# Altium integrated library Xilinx Spartan-6L.IntLib: 84 symbols (part 20 of 21)
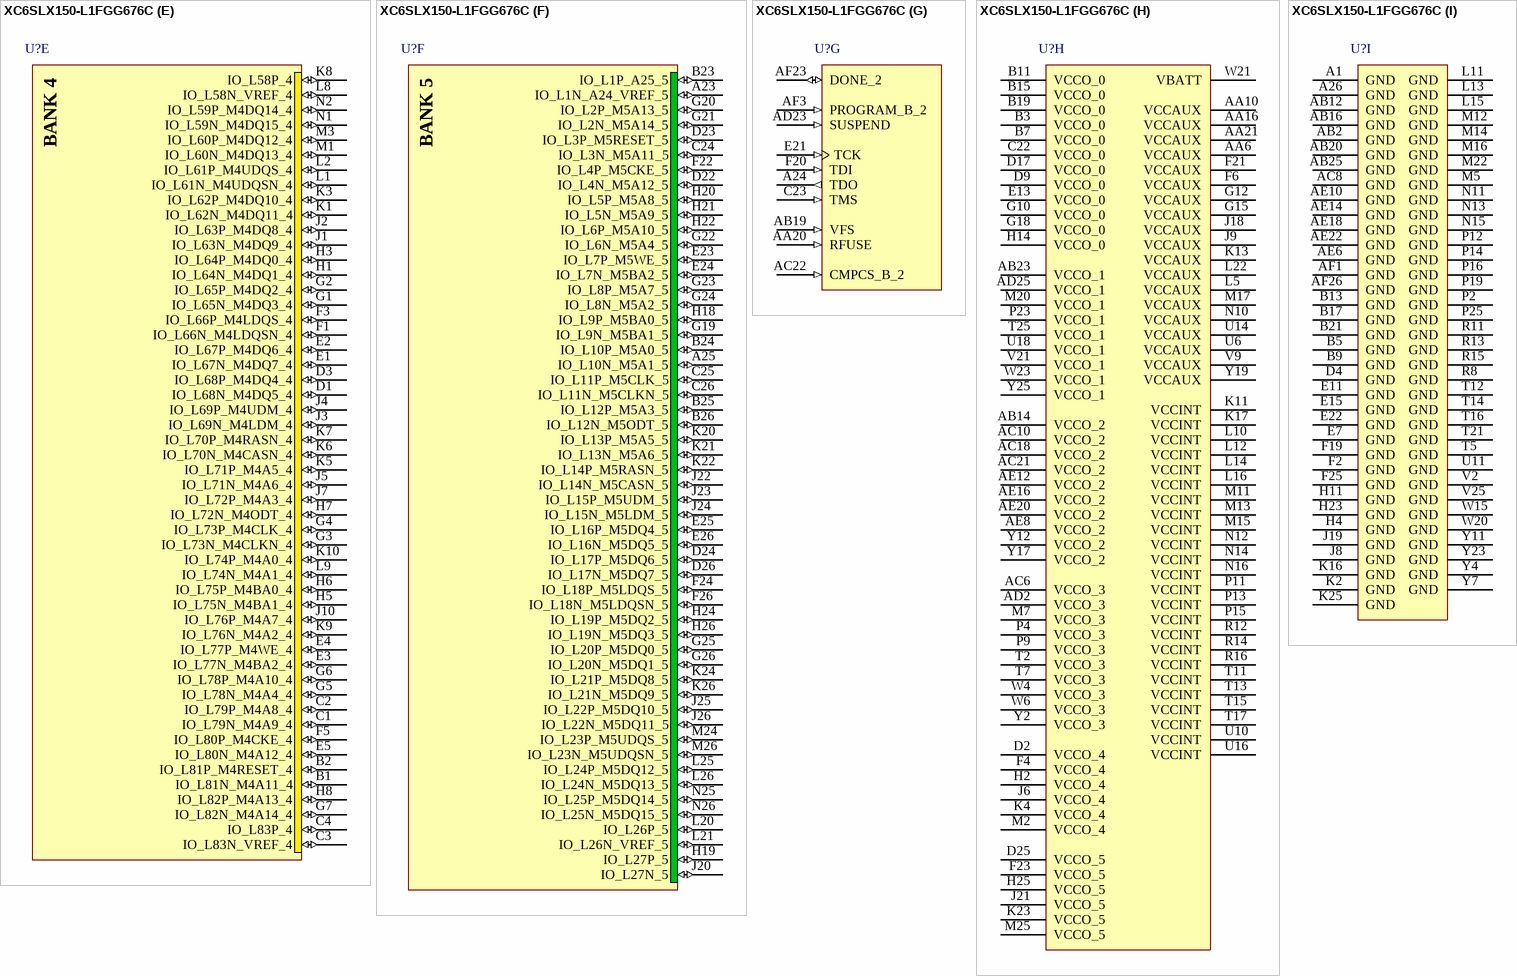
[diagram p129: symbol XC6SLX150-L1FGG676C]

## XC6SLX150-L1FGG676C
designator U?
Spartan-6 LX 1.0V FPGA, 498 User I/Os, 676-Ball Fine-Pitch BGA (1.0mm Pitch), Low Power Version, Commercial Grade, Pb-Free; Published: 17-Nov-2009; DatasheetVersion: ver1.6, Nov-2010; PackageVersion: ver1.2.1, Apr-2005; PackageReference: FGG676; Publisher: Altium Limited; PackageDescription: 676-Ball Fine Pitch Ball Grid Array (FGG676) - Pb-Free; Code_JEDEC: MS-034-AAL-1; Code_IPC: BGA100P26X26-676; ComponentLink1Description: Manufacturer Link; ComponentLink1URL: http://www.xilinx.com; ComponentLink2Description: Spartan-6 Datasheet; ComponentLink2URL: http://www.xilinx.com/support/documentation/data_sheets/ds160.pdf; ComponentLink3Description: Spartan-6 Documents; ComponentLink3URL: http://www.xilinx.com/support/documentation/spartan-6.htm; ComponentLink4Description: Xilinx.com Home; ComponentLink4URL: http://www.xilinx.com
footprint FGG676 (BGA, 676-Leads, Body 27x27mm, Pitch 1mm)
signal-integrity model XC6SLX150_FGG676 (Spartan-6)
part A pins: A2 IO_L1N_VREF_0 (io), A3 IO_L1P_HSWAPEN_0 (io), A4 IO_L2N_0 (io), A5 IO_L4N_0 (io), A6 IO_L6N_0 (io), A7 IO_L12N_0 (io), A8 IO_L16N_0 (io), A9 IO_L17N_0 (io), A10 IO_L22N_0 (io), A11 IO_L24N_0 (io), A12 IO_L26N_0 (io), A13 IO_L34N_GCLK18_0 (io), A14 IO_L35N_GCLK16_0 (io), A15 IO_L37N_GCLK12_0 (io), A16 IO_L38N_VREF_0 (io), A17 IO_L50N_0 (io), A18 IO_L62N_VREF_0 (io), A19 IO_L63N_SCP6_0 (io), A20 IO_L64N_SCP4_0 (io), A21 IO_L65N_SCP2_0 (io), A22 IO_L66N_SCP0_0 (io), B4 IO_L2P_0 (io), B6 IO_L6P_0 (io), B8 IO_L16P_0 (io), B10 IO_L22P_0 (io), B12 IO_L26P_0 (io), B14 IO_L35P_GCLK17_0 (io), B16 IO_L38P_0 (io), B18 IO_L62P_0 (io), B20 IO_L64P_SCP5_0 (io), B22 IO_L66P_SCP1_0 (io), C5 IO_L4P_0 (io), C6 IO_L8N_VREF_0 (io), C7 IO_L12P_0 (io), C8 IO_L14N_0 (io), C9 IO_L17P_0 (io), C10 IO_L19N_0 (io), C11 IO_L24P_0 (io), C12 IO_L31N_0 (io), C13 IO_L34P_GCLK19_0 (io), C14 IO_L36N_GCLK14_0 (io), C15 IO_L37P_GCLK13_0 (io), C16 IO_L46N_0 (io), C17 IO_L50P_0 (io), C18 IO_L52N_0 (io), C19 IO_L63P_SCP7_0 (io), C20 IO_L56N_0 (io), C21 IO_L65P_SCP3_0 (io), D5 IO_L3N_0 (io), D6 IO_L8P_0 (io), D7 IO_L13N_0 (io), D8 IO_L14P_0 (io), D10 IO_L19P_0 (io), D11 IO_L23P_0 (io), D12 IO_L31P_0 (io), D13 IO_L33N_0 (io), D14 IO_L36P_GCLK15_0 (io), D15 IO_L44N_0 (io), D16 IO_L46P_0 (io), D18 IO_L52P_0 (io), D19 IO_L54N_0 (io), D20 IO_L58N_0 (io), D21 IO_L56P_0 (io), E6 IO_L3P_0 (io), E8 IO_L13P_0 (io), E9 IO_L15N_0 (io), E10 IO_L18P_0 (io), E12 IO_L30N_0 (io), E14 IO_L44P_0 (io), E16 IO_L49N_0 (io), E17 IO_L48N_0 (io), E18 IO_L57N_0 (io), E19 IO_L54P_0 (io), E20 IO_L58P_0 (io), F7 IO_L5N_0 (io), F8 IO_L7N_0 (io), F9 IO_L15P_0 (io), F10 IO_L18N_0 (io), F11 IO_L23N_0 (io), F12 IO_L30P_0 (io), F13 IO_L33P_0 (io), F14 IO_L32N_0 (io), F15 IO_L47N_0 (io), F16 IO_L49P_0 (io), F17 IO_L48P_0 (io), F18 IO_L57P_0 (io), G8 IO_L5P_0 (io), G9 IO_L7P_0 (io), G11 IO_L25N_0 (io), G13 IO_L32P_0 (io), G14 IO_L43N_0 (io), G16 IO_L47P_0 (io), G17 IO_L55N_0 (io), H9 IO_L11N_0 (io), H10 IO_L11P_0 (io), H12 IO_L25P_0 (io), H13 IO_L21N_0 (io), H15 IO_L51N_0 (io), H16 IO_L55P_0 (io), H17 IO_L59N_0 (io), J11 IO_L9N_0 (io), J12 IO_L21P_0 (io), J13 IO_L45P_0 (io), J14 IO_L43P_0 (io), J15 IO_L51P_0 (io), J16 IO_L53N_0 (io), J17 IO_L59P_0 (io), K12 IO_L9P_0 (io), K14 IO_L45N_0 (io), K15 IO_L53P_0 (io)
part B pins: AA22 IO_L73N_1 (io), AA23 IO_L63P_1 (io), AA24 IO_L63N_1 (io), AA25 IO_L51P_M1DQ12_1 (io), AA26 IO_L51N_M1DQ13_1 (io), AB21 IO_L69P_1 (io), AB22 IO_L69N_VREF_1 (io), AB24 IO_L49P_M1DQ10_1 (io), AB26 IO_L49N_M1DQ11_1 (io), AC23 IO_L65P_1 (io), AC24 IO_L65N_1 (io), AC25 IO_L50P_M1UDQS_1 (io), AC26 IO_L50N_M1UDQSN_1 (io), AD24 IO_L48P_HDC_M1DQ8_1 (io), AD26 IO_L48N_M1DQ9_1 (io), AE23 IO_L74P_AWAKE_1 (io), AE24 IO_L67P_1 (io), AE25 IO_L52P_M1DQ14_1 (io), AE26 IO_L52N_M1DQ15_1 (io), AF24 IO_L74N_DOUT_BUSY_1 (io), AF25 IO_L67N_1 (io), K18 IO_L32N_A16_M1A9_1 (io), K19 IO_L28N_VREF_1 (io), L17 IO_L32P_A17_M1A8_1 (io), L18 IO_L34N_A12_M1BA2_1 (io), L19 IO_L28P_1 (io), L23 IO_L29P_A23_M1A13_1 (io), L24 IO_L29N_A22_M1A14_1 (io), M18 IO_L36P_A9_M1BA0_1 (io), M19 IO_L34P_A13_M1WE_1 (io), M21 IO_L40N_GCLK10_M1A6_1 (io), M23 IO_L31P_A19_M1CKE_1 (io), N17 IO_L38P_A5_M1CLK_1 (io), N18 IO_L38N_A4_M1CLKN_1 (io), N19 IO_L36N_A8_M1BA1_1 (io), N20 IO_L40P_GCLK11_M1A5_1 (io), N21 IO_L30N_A20_M1A11_1 (io), N22 IO_L37P_A7_M1A0_1 (io), N23 IO_L37N_A6_M1A1_1 (io), N24 IO_L31N_A18_M1A12_1 (io), P17 IO_L56P_1 (io), P18 IO_L56N_1 (io), P20 IO_L30P_A21_M1RESET_1 (io), P21 IO_L41P_GCLK9_IRDY1_M1RASN_1 (io), P22 IO_L41N_GCLK8_M1CASN_1 (io), P24 IO_L33P_A15_M1A10_1 (io), P26 IO_L33N_A14_M1A4_1 (io), R17 IO_L58P_1 (io), R18 IO_L58N_1 (io), R19 IO_L57N_1 (io), R20 IO_L57P_1 (io), R21 IO_L55N_1 (io), R22 IO_L55P_1 (io), R23 IO_L39P_M1A3_1 (io), R24 IO_L39N_M1ODT_1 (io), R25 IO_L35P_A11_M1A7_1 (io), R26 IO_L35N_A10_M1A2_1 (io), T18 IO_L60P_1 (io), T19 IO_L60N_1 (io), T20 IO_L64P_1 (io), T22 IO_L59P_1 (io), T23 IO_L53P_1 (io), T24 IO_L46P_FCS_B_M1DQ2_1 (io), T26 IO_L46N_FOE_B_M1DQ3_1 (io), U17 IO_L62P_1 (io), U19 IO_L70P_1 (io), U20 IO_L64N_1 (io), U21 IO_L61P_1 (io), U22 IO_L61N_1 (io), U23 IO_L59N_1 (io), U24 IO_L53N_VREF_1 (io), U25 IO_L43P_GCLK5_M1DQ4_1 (io), U26 IO_L43N_GCLK4_M1DQ5_1 (io), V17 IO_L62N_1 (io), V18 IO_L66P_1 (io), V19 IO_L66N_1 (io), V20 IO_L70N_1 (io), V22 IO_L71P_1 (io), V23 IO_L42P_GCLK7_M1UDM_1 (io), V24 IO_L45P_A1_M1LDQS_1 (io), V26 IO_L45N_A0_M1LDQSN_1 (io), W18 IO_L68P_1 (io), W19 IO_L68N_1 (io), W22 IO_L71N_1 (io), W24 IO_L42N_GCLK6_TRDY1_M1LDM_1 (io), W25 IO_L44P_A3_M1DQ6_1 (io), W26 IO_L44N_A2_M1DQ7_1 (io), Y20 IO_L72P_1 (io), Y21 IO_L72N_1 (io), Y22 IO_L73P_1 (io), Y24 IO_L47P_FWE_B_M1DQ0_1 (io), Y26 IO_L47N_LDC_M1DQ1_1 (io)
part C pins: AA9 IO_L61P_2 (io), AA11 IO_L43P_2 (io), AA12 IO_L41P_2 (io), AA13 IO_L34P_2 (io), AA14 IO_L28N_2 (io), AA15 IO_L20N_2 (io), AA17 IO_L10N_2 (io), AA18 IO_L11P_2 (io), AA19 IO_L6N_2 (io), AB9 IO_L61N_VREF_2 (io), AB10 IO_L51N_2 (io), AB11 IO_L43N_2 (io), AB13 IO_L34N_2 (io), AB15 IO_L19P_2 (io), AB17 IO_L15P_2 (io), AB18 IO_L11N_2 (io), AC9 IO_L58P_2 (io), AC11 IO_L45P_2 (io), AC12 IO_L41N_VREF_2 (io), AC13 IO_L31P_GCLK31_D14_2 (io), AC14 IO_L19N_2 (io), AC15 IO_L16P_2 (io), AC16 IO_L17P_2 (io), AC17 IO_L15N_2 (io), AC19 IO_L7P_2 (io), AC20 IO_L5P_2 (io), AD6 IO_L63P_2 (io), AD8 IO_L53P_2 (io), AD9 IO_L58N_2 (io), AD10 IO_L49P_D3_2 (io), AD11 IO_L45N_2 (io), AD12 IO_L32P_GCLK29_2 (io), AD13 IO_L31N_GCLK30_D15_2 (io), AD14 IO_L29P_GCLK3_2 (io), AD15 IO_L16N_VREF_2 (io), AD16 IO_L13P_M1_2 (io), AD17 IO_L17N_2 (io), AD18 IO_L9P_2 (io), AD19 IO_L7N_2 (io), AD20 IO_L3P_D0_DIN_MISO_MISO1_2 (io), AD21 IO_L5N_2 (io), AD22 IO_L1P_CCLK_2 (io), AE4 IO_L65P_INIT_B_2 (io), AE5 IO_L64P_D8_2 (io), AE7 IO_L62P_D5_2 (io), AE9 IO_L48P_D7_2 (io), AE11 IO_L47P_2 (io), AE13 IO_L30P_GCLK1_D13_2 (io), AE15 IO_L14P_D11_2 (io), AE17 IO_L12P_D1_MISO2_2 (io), AE19 IO_L4P_2 (io), AE21 IO_L2P_CMPCLK_2 (io), AF4 IO_L65N_CSO_B_2 (io), AF5 IO_L64N_D9_2 (io), AF6 IO_L63N_2 (io), AF7 IO_L62N_D6_2 (io), AF8 IO_L53N_2 (io), AF9 IO_L48N_RDWR_B_VREF_2 (io), AF10 IO_L49N_D4_2 (io), AF11 IO_L47N_2 (io), AF12 IO_L32N_GCLK28_2 (io), AF13 IO_L30N_GCLK0_USERCCLK_2 (io), AF14 IO_L29N_GCLK2_2 (io), AF15 IO_L14N_D12_2 (io), AF16 IO_L13N_D10_2 (io), AF17 IO_L12N_D2_MISO3_2 (io), AF18 IO_L9N_2 (io), AF19 IO_L4N_VREF_2 (io), AF20 IO_L3N_MOSI_CSI_B_MISO0_2 (io), AF21 IO_L2N_CMPMOSI_2 (io), AF22 IO_L1N_M0_CMPMISO_2 (io), U12 IO_L50N_2 (io), U13 IO_L50P_2 (io), U15 IO_L42P_2 (io), V11 IO_L52P_2 (io), V12 IO_L46P_2 (io), V13 IO_L44P_2 (io), V14 IO_L42N_2 (io), V15 IO_L18P_2 (io), V16 IO_L8P_2 (io), W11 IO_L52N_2 (io), W12 IO_L46N_2 (io), W13 IO_L33P_2 (io), W14 IO_L44N_2 (io), W16 IO_L18N_2 (io), W17 IO_L8N_2 (io), Y10 IO_L51P_2 (io), Y13 IO_L33N_2 (io), Y14 IO_L28P_2 (io), Y15 IO_L20P_2 (io), Y16 IO_L10P_2 (io), Y18 IO_L6P_2 (io)
part D pins: AA1 IO_L36N_M3DQ9_3 (io), AA2 IO_L36P_M3DQ8_3 (io), AA3 IO_L20N_3 (io), AA4 IO_L20P_3 (io), AA5 IO_L16P_3 (io), AA7 IO_L7P_3 (io), AA8 IO_L4P_3 (io), AB1 IO_L32N_M3DQ15_3 (io), AB3 IO_L32P_M3DQ14_3 (io), AB4 IO_L18P_3 (io), AB5 IO_L16N_3 (io), AB6 IO_L8N_3 (io), AB7 IO_L8P_3 (io), AB8 IO_L4N_3 (io), AC1 IO_L34N_M3UDQSN_3 (io), AC2 IO_L34P_M3UDQS_3 (io), AC3 IO_L18N_3 (io), AC4 IO_L3P_3 (io), AC5 IO_L10P_3 (io), AC7 IO_L1P_3 (io), AD1 IO_L33N_M3DQ13_3 (io), AD3 IO_L33P_M3DQ12_3 (io), AD4 IO_L3N_3 (io), AD5 IO_L10N_3 (io), AD7 IO_L1N_VREF_3 (io), AE1 IO_L35N_M3DQ11_3 (io), AE2 IO_L35P_M3DQ10_3 (io), AE3 IO_L2P_3 (io), AF2 IO_L2N_3 (io), L3 IO_L54N_M3A11_3 (io), L4 IO_L54P_M3RESET_3 (io), L6 IO_L57N_VREF_3 (io), L7 IO_L57P_3 (io), M4 IO_L55N_M3A14_3 (io), M6 IO_L55P_M3A13_3 (io), M8 IO_L53N_M3A12_3 (io), M9 IO_L53P_M3CKE_3 (io), M10 IO_L51P_M3A10_3 (io), N3 IO_L52N_M3A9_3 (io), N4 IO_L52P_M3A8_3 (io), N5 IO_L50N_M3BA2_3 (io), N6 IO_L47N_M3A1_3 (io), N7 IO_L47P_M3A0_3 (io), N8 IO_L43P_GCLK23_M3RASN_3 (io), N9 IO_L51N_M3A4_3 (io), P1 IO_L48N_M3BA1_3 (io), P3 IO_L48P_M3BA0_3 (io), P5 IO_L50P_M3WE_3 (io), P6 IO_L45N_M3ODT_3 (io), P7 IO_L45P_M3A3_3 (io), P8 IO_L43N_GCLK22_IRDY2_M3CASN_3 (io), P10 IO_L49P_M3A7_3 (io), R1 IO_L44N_GCLK20_M3A6_3 (io), R2 IO_L44P_GCLK21_M3A5_3 (io), R3 IO_L46N_M3CLKN_3 (io), R4 IO_L46P_M3CLK_3 (io), R5 IO_L30P_3 (io), R6 IO_L31N_VREF_3 (io), R7 IO_L31P_3 (io), R9 IO_L49N_M3A2_3 (io), R10 IO_L27P_3 (io), T1 IO_L41N_GCLK26_M3DQ5_3 (io), T3 IO_L41P_GCLK27_M3DQ4_3 (io), T4 IO_L30N_3 (io), T6 IO_L29N_3 (io), T8 IO_L29P_3 (io), T9 IO_L27N_3 (io), T10 IO_L25P_3 (io), U1 IO_L40N_M3DQ7_3 (io), U2 IO_L40P_M3DQ6_3 (io), U3 IO_L28N_3 (io), U4 IO_L28P_3 (io), U5 IO_L24P_3 (io), U7 IO_L23N_3 (io), U8 IO_L23P_3 (io), U9 IO_L25N_3 (io), V1 IO_L39N_M3LDQSN_3 (io), V3 IO_L39P_M3LDQS_3 (io), V4 IO_L42P_GCLK25_TRDY2_M3UDM_3 (io), V5 IO_L24N_3 (io), V6 IO_L17N_VREF_3 (io), V7 IO_L17P_3 (io), V8 IO_L19N_3 (io), V10 IO_L21N_3 (io), W1 IO_L38N_M3DQ3_3 (io), W2 IO_L38P_M3DQ2_3 (io), W3 IO_L42N_GCLK24_M3LDM_3 (io), W5 IO_L22P_3 (io), W7 IO_L15N_3 (io), W8 IO_L15P_3 (io), W9 IO_L19P_3 (io), W10 IO_L21P_3 (io), Y1 IO_L37N_M3DQ1_3 (io), Y3 IO_L37P_M3DQ0_3 (io), Y5 IO_L22N_3 (io), Y6 IO_L7N_3 (io), Y8 IO_L9N_3 (io), Y9 IO_L9P_3 (io)
part E pins: B1 IO_L81N_M4A11_4 (io), B2 IO_L81P_M4RESET_4 (io), C1 IO_L79N_M4A9_4 (io), C2 IO_L79P_M4A8_4 (io), C3 IO_L83N_VREF_4 (io), C4 IO_L83P_4 (io), D1 IO_L68N_M4DQ5_4 (io), D3 IO_L68P_M4DQ4_4 (io), E1 IO_L67N_M4DQ7_4 (io), E2 IO_L67P_M4DQ6_4 (io), E3 IO_L77N_M4BA2_4 (io), E4 IO_L77P_M4WE_4 (io), E5 IO_L80N_M4A12_4 (io), F1 IO_L66N_M4LDQSN_4 (io), F3 IO_L66P_M4LDQS_4 (io), F5 IO_L80P_M4CKE_4 (io), G1 IO_L65N_M4DQ3_4 (io), G2 IO_L65P_M4DQ2_4 (io), G3 IO_L73N_M4CLKN_4 (io), G4 IO_L73P_M4CLK_4 (io), G5 IO_L78N_M4A4_4 (io), G6 IO_L78P_M4A10_4 (io), G7 IO_L82N_M4A14_4 (io), H1 IO_L64N_M4DQ1_4 (io), H3 IO_L64P_M4DQ0_4 (io), H5 IO_L75N_M4BA1_4 (io), H6 IO_L75P_M4BA0_4 (io), H7 IO_L72N_M4ODT_4 (io), H8 IO_L82P_M4A13_4 (io), J1 IO_L63N_M4DQ9_4 (io), J2 IO_L63P_M4DQ8_4 (io), J3 IO_L69N_M4LDM_4 (io), J4 IO_L69P_M4UDM_4 (io), J5 IO_L71N_M4A6_4 (io), J7 IO_L72P_M4A3_4 (io), J10 IO_L76P_M4A7_4 (io), K1 IO_L62N_M4DQ11_4 (io), K3 IO_L62P_M4DQ10_4 (io), K5 IO_L71P_M4A5_4 (io), K6 IO_L70N_M4CASN_4 (io), K7 IO_L70P_M4RASN_4 (io), K8 IO_L58P_4 (io), K9 IO_L76N_M4A2_4 (io), K10 IO_L74P_M4A0_4 (io), L1 IO_L61N_M4UDQSN_4 (io), L2 IO_L61P_M4UDQS_4 (io), L8 IO_L58N_VREF_4 (io), L9 IO_L74N_M4A1_4 (io), M1 IO_L60N_M4DQ13_4 (io), M3 IO_L60P_M4DQ12_4 (io), N1 IO_L59N_M4DQ15_4 (io), N2 IO_L59P_M4DQ14_4 (io)
part F pins: A23 IO_L1N_A24_VREF_5 (io), A25 IO_L10N_M5A1_5 (io), B23 IO_L1P_A25_5 (io), B24 IO_L10P_M5A0_5 (io), B25 IO_L12P_M5A3_5 (io), B26 IO_L12N_M5ODT_5 (io), C24 IO_L3N_M5A11_5 (io), C25 IO_L11P_M5CLK_5 (io), C26 IO_L11N_M5CLKN_5 (io), D22 IO_L4N_M5A12_5 (io), D23 IO_L3P_M5RESET_5 (io), D24 IO_L17P_M5DQ6_5 (io), D26 IO_L17N_M5DQ7_5 (io), E23 IO_L7P_M5WE_5 (io), E24 IO_L7N_M5BA2_5 (io), E25 IO_L16P_M5DQ4_5 (io), E26 IO_L16N_M5DQ5_5 (io), F22 IO_L4P_M5CKE_5 (io), F24 IO_L18P_M5LDQS_5 (io), F26 IO_L18N_M5LDQSN_5 (io), G19 IO_L9N_M5BA1_5 (io), G20 IO_L2P_M5A13_5 (io), G21 IO_L2N_M5A14_5 (io), G22 IO_L6N_M5A4_5 (io), G23 IO_L8P_M5A7_5 (io), G24 IO_L8N_M5A2_5 (io), G25 IO_L20P_M5DQ0_5 (io), G26 IO_L20N_M5DQ1_5 (io), H18 IO_L9P_M5BA0_5 (io), H19 IO_L27P_5 (io), H20 IO_L5P_M5A8_5 (io), H21 IO_L5N_M5A9_5 (io), H22 IO_L6P_M5A10_5 (io), H24 IO_L19P_M5DQ2_5 (io), H26 IO_L19N_M5DQ3_5 (io), J20 IO_L27N_5 (io), J22 IO_L14N_M5CASN_5 (io), J23 IO_L15P_M5UDM_5 (io), J24 IO_L15N_M5LDM_5 (io), J25 IO_L22P_M5DQ10_5 (io), J26 IO_L22N_M5DQ11_5 (io), K20 IO_L13P_M5A5_5 (io), K21 IO_L13N_M5A6_5 (io), K22 IO_L14P_M5RASN_5 (io), K24 IO_L21P_M5DQ8_5 (io), K26 IO_L21N_M5DQ9_5 (io), L20 IO_L26P_5 (io), L21 IO_L26N_VREF_5 (io), L25 IO_L24P_M5DQ12_5 (io), L26 IO_L24N_M5DQ13_5 (io), M24 IO_L23P_M5UDQS_5 (io), M26 IO_L23N_M5UDQSN_5 (io), N25 IO_L25P_M5DQ14_5 (io), N26 IO_L25N_M5DQ15_5 (io)
part G pins: A24 TDO (out), AA20 RFUSE (in), AB19 VFS (in), AC22 CMPCS_B_2 (in), AD23 SUSPEND (in), AF3 PROGRAM_B_2 (in), AF23 DONE_2 (io), C23 TMS (in), E21 TCK (in), F20 TDI (in)
part H pins: AA6 VCCAUX (power), AA10 VCCAUX (power), AA16 VCCAUX (power), AA21 VCCAUX (power), AB14 VCCO_2 (power), AB23 VCCO_1 (power), AC6 VCCO_3 (power), AC10 VCCO_2 (power), AC18 VCCO_2 (power), AC21 VCCO_2 (power), AD2 VCCO_3 (power), AD25 VCCO_1 (power), AE8 VCCO_2 (power), AE12 VCCO_2 (power), AE16 VCCO_2 (power), AE20 VCCO_2 (power), B3 VCCO_0 (power), B7 VCCO_0 (power), B11 VCCO_0 (power), B15 VCCO_0 (power), B19 VCCO_0 (power), C22 VCCO_0 (power), D2 VCCO_4 (power), D9 VCCO_0 (power), D17 VCCO_0 (power), D25 VCCO_5 (power), E13 VCCO_0 (power), F4 VCCO_4 (power), F6 VCCAUX (power), F21 VCCAUX (power), F23 VCCO_5 (power), G10 VCCO_0 (power), G12 VCCAUX (power), G15 VCCAUX (power), G18 VCCO_0 (power), H2 VCCO_4 (power), H14 VCCO_0 (power), H25 VCCO_5 (power), J6 VCCO_4 (power), J9 VCCAUX (power), J18 VCCAUX (power), J21 VCCO_5 (power), K4 VCCO_4 (power), K11 VCCINT (power), K13 VCCAUX (power), K17 VCCINT (power), K23 VCCO_5 (power), L5 VCCAUX (power), L10 VCCINT (power), L12 VCCINT (power), L14 VCCINT (power), L16 VCCINT (power), L22 VCCAUX (power), M2 VCCO_4 (power), M7 VCCO_3 (power), M11 VCCINT (power), M13 VCCINT (power), M15 VCCINT (power), M17 VCCAUX (power), M20 VCCO_1 (power), M25 VCCO_5 (power), N10 VCCAUX (power), N12 VCCINT (power), N14 VCCINT (power), N16 VCCINT (power), P4 VCCO_3 (power), P9 VCCO_3 (power), P11 VCCINT (power), P13 VCCINT (power), P15 VCCINT (power), P23 VCCO_1 (power), R12 VCCINT (power), R14 VCCINT (power), R16 VCCINT (power), T2 VCCO_3 (power), T7 VCCO_3 (power), T11 VCCINT (power), T13 VCCINT (power), T15 VCCINT (power), T17 VCCINT (power), T25 VCCO_1 (power), U6 VCCAUX (power), U10 VCCINT (power), U14 VCCAUX (power), U16 VCCINT (power), U18 VCCO_1 (power), V9 VCCAUX (power), V21 VCCO_1 (power), W4 VCCO_3 (power), W6 VCCO_3 (power), W21 VBATT (power), W23 VCCO_1 (power), Y2 VCCO_3 (power), Y12 VCCO_2 (power), Y17 VCCO_2 (power), Y19 VCCAUX (power), Y25 VCCO_1 (power)
part I pins: A1 GND (power), A26 GND (power), AB2 GND (power), AB12 GND (power), AB16 GND (power), AB20 GND (power), AB25 GND (power), AC8 GND (power), AE6 GND (power), AE10 GND (power), AE14 GND (power), AE18 GND (power), AE22 GND (power), AF1 GND (power), AF26 GND (power), B5 GND (power), B9 GND (power), B13 GND (power), B17 GND (power), B21 GND (power), D4 GND (power), E7 GND (power), E11 GND (power), E15 GND (power), E22 GND (power), F2 GND (power), F19 GND (power), F25 GND (power), H4 GND (power), H11 GND (power), H23 GND (power), J8 GND (power), J19 GND (power), K2 GND (power), K16 GND (power), K25 GND (power), L11 GND (power), L13 GND (power), L15 GND (power), M5 GND (power), M12 GND (power), M14 GND (power), M16 GND (power), M22 GND (power), N11 GND (power), N13 GND (power), N15 GND (power), P2 GND (power), P12 GND (power), P14 GND (power), P16 GND (power), P19 GND (power), P25 GND (power), R8 GND (power), R11 GND (power), R13 GND (power), R15 GND (power), T5 GND (power), T12 GND (power), T14 GND (power), T16 GND (power), T21 GND (power), U11 GND (power), V2 GND (power), V25 GND (power), W15 GND (power), W20 GND (power), Y4 GND (power), Y7 GND (power), Y11 GND (power), Y23 GND (power)
part A text: BANK 0
part B text: BANK 1
part C text: BANK 2
part D text: BANK 3
part E text: BANK 4
part F text: BANK 5

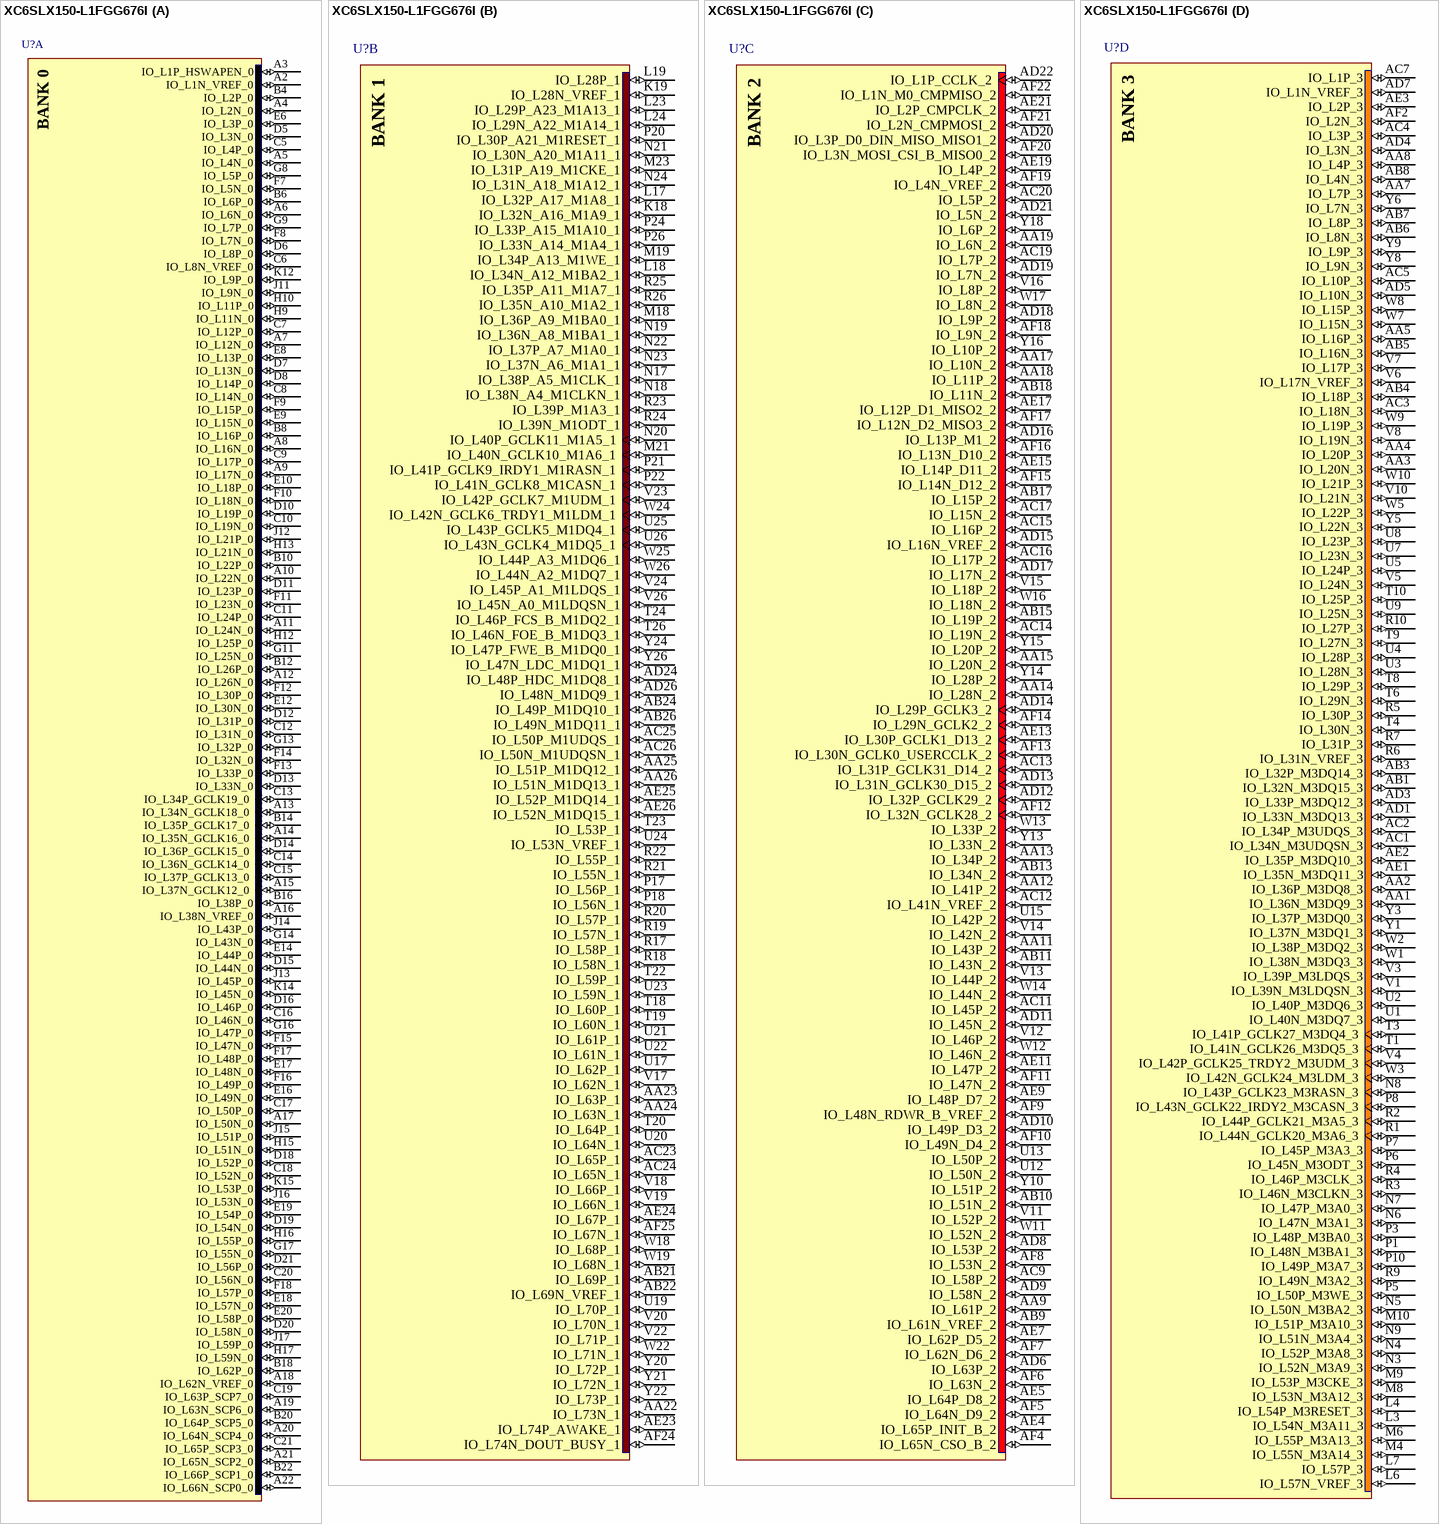
[diagram p105: symbol XC6SLX150-L1FGG676I]

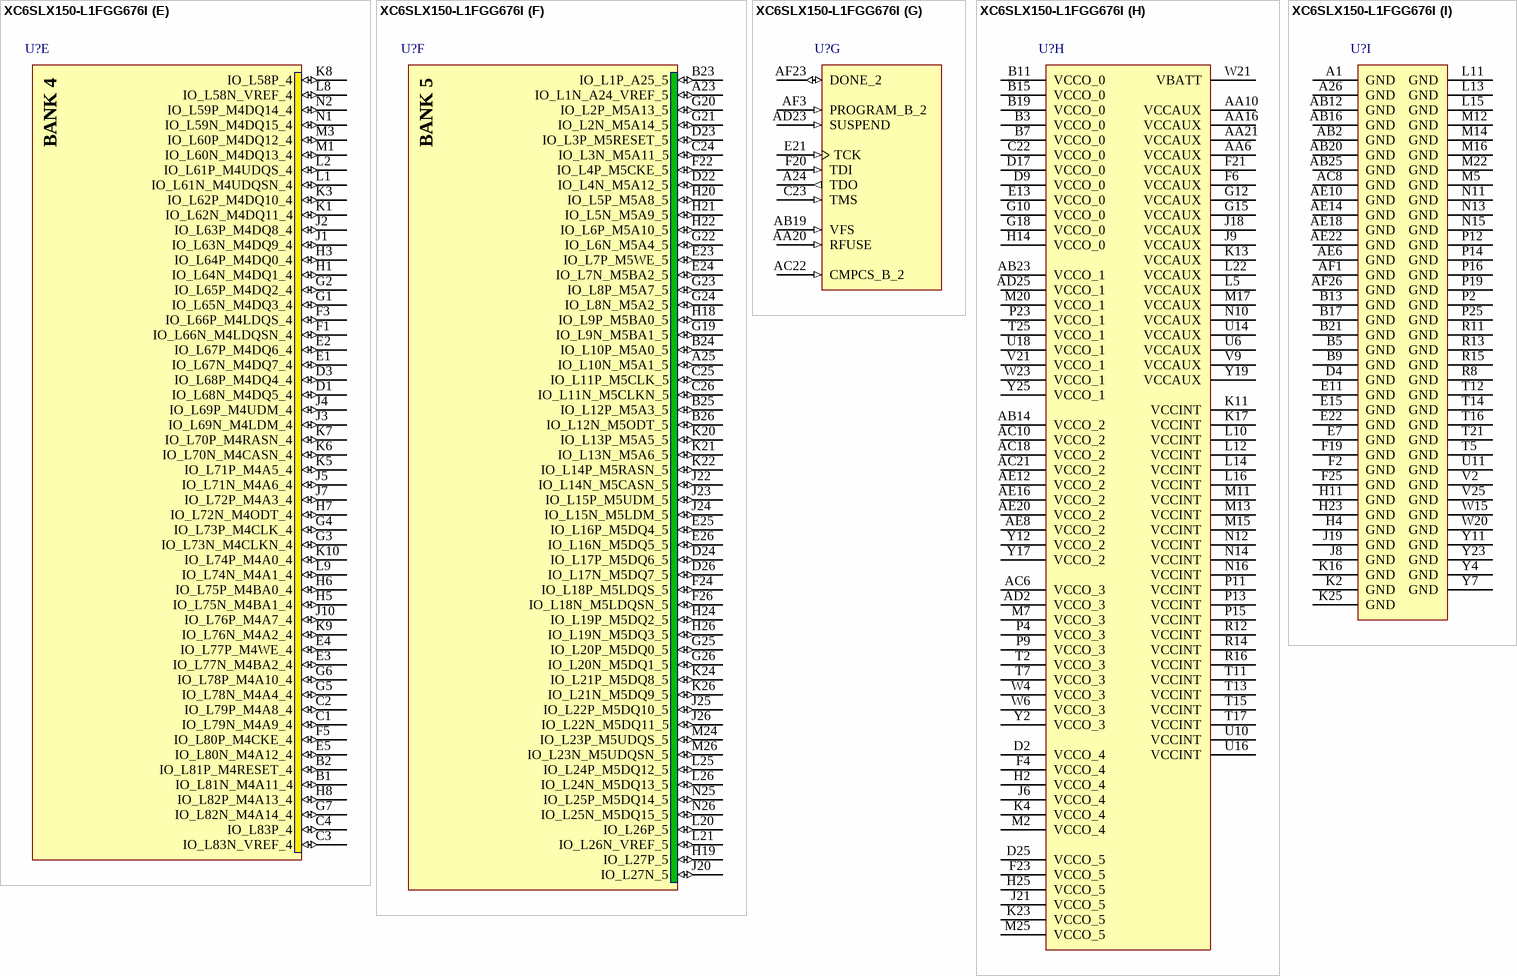
[diagram p106: symbol XC6SLX150-L1FGG676I]

## XC6SLX150-L1FGG676I
designator U?
Spartan-6 LX 1.0V FPGA, 498 User I/Os, 676-Ball Fine-Pitch BGA (1.0mm Pitch), Low Power Version, Industrial Grade, Pb-Free; Published: 17-Nov-2009; DatasheetVersion: ver1.6, Nov-2010; PackageVersion: ver1.2.1, Apr-2005; PackageReference: FGG676; Publisher: Altium Limited; PackageDescription: 676-Ball Fine Pitch Ball Grid Array (FGG676) - Pb-Free; Code_JEDEC: MS-034-AAL-1; Code_IPC: BGA100P26X26-676; ComponentLink1Description: Manufacturer Link; ComponentLink1URL: http://www.xilinx.com; ComponentLink2Description: Spartan-6 Datasheet; ComponentLink2URL: http://www.xilinx.com/support/documentation/data_sheets/ds160.pdf; ComponentLink3Description: Spartan-6 Documents; ComponentLink3URL: http://www.xilinx.com/support/documentation/spartan-6.htm; ComponentLink4Description: Xilinx.com Home; ComponentLink4URL: http://www.xilinx.com
footprint FGG676 (BGA, 676-Leads, Body 27x27mm, Pitch 1mm)
signal-integrity model XC6SLX150_FGG676 (Spartan-6)
part A pins: A2 IO_L1N_VREF_0 (io), A3 IO_L1P_HSWAPEN_0 (io), A4 IO_L2N_0 (io), A5 IO_L4N_0 (io), A6 IO_L6N_0 (io), A7 IO_L12N_0 (io), A8 IO_L16N_0 (io), A9 IO_L17N_0 (io), A10 IO_L22N_0 (io), A11 IO_L24N_0 (io), A12 IO_L26N_0 (io), A13 IO_L34N_GCLK18_0 (io), A14 IO_L35N_GCLK16_0 (io), A15 IO_L37N_GCLK12_0 (io), A16 IO_L38N_VREF_0 (io), A17 IO_L50N_0 (io), A18 IO_L62N_VREF_0 (io), A19 IO_L63N_SCP6_0 (io), A20 IO_L64N_SCP4_0 (io), A21 IO_L65N_SCP2_0 (io), A22 IO_L66N_SCP0_0 (io), B4 IO_L2P_0 (io), B6 IO_L6P_0 (io), B8 IO_L16P_0 (io), B10 IO_L22P_0 (io), B12 IO_L26P_0 (io), B14 IO_L35P_GCLK17_0 (io), B16 IO_L38P_0 (io), B18 IO_L62P_0 (io), B20 IO_L64P_SCP5_0 (io), B22 IO_L66P_SCP1_0 (io), C5 IO_L4P_0 (io), C6 IO_L8N_VREF_0 (io), C7 IO_L12P_0 (io), C8 IO_L14N_0 (io), C9 IO_L17P_0 (io), C10 IO_L19N_0 (io), C11 IO_L24P_0 (io), C12 IO_L31N_0 (io), C13 IO_L34P_GCLK19_0 (io), C14 IO_L36N_GCLK14_0 (io), C15 IO_L37P_GCLK13_0 (io), C16 IO_L46N_0 (io), C17 IO_L50P_0 (io), C18 IO_L52N_0 (io), C19 IO_L63P_SCP7_0 (io), C20 IO_L56N_0 (io), C21 IO_L65P_SCP3_0 (io), D5 IO_L3N_0 (io), D6 IO_L8P_0 (io), D7 IO_L13N_0 (io), D8 IO_L14P_0 (io), D10 IO_L19P_0 (io), D11 IO_L23P_0 (io), D12 IO_L31P_0 (io), D13 IO_L33N_0 (io), D14 IO_L36P_GCLK15_0 (io), D15 IO_L44N_0 (io), D16 IO_L46P_0 (io), D18 IO_L52P_0 (io), D19 IO_L54N_0 (io), D20 IO_L58N_0 (io), D21 IO_L56P_0 (io), E6 IO_L3P_0 (io), E8 IO_L13P_0 (io), E9 IO_L15N_0 (io), E10 IO_L18P_0 (io), E12 IO_L30N_0 (io), E14 IO_L44P_0 (io), E16 IO_L49N_0 (io), E17 IO_L48N_0 (io), E18 IO_L57N_0 (io), E19 IO_L54P_0 (io), E20 IO_L58P_0 (io), F7 IO_L5N_0 (io), F8 IO_L7N_0 (io), F9 IO_L15P_0 (io), F10 IO_L18N_0 (io), F11 IO_L23N_0 (io), F12 IO_L30P_0 (io), F13 IO_L33P_0 (io), F14 IO_L32N_0 (io), F15 IO_L47N_0 (io), F16 IO_L49P_0 (io), F17 IO_L48P_0 (io), F18 IO_L57P_0 (io), G8 IO_L5P_0 (io), G9 IO_L7P_0 (io), G11 IO_L25N_0 (io), G13 IO_L32P_0 (io), G14 IO_L43N_0 (io), G16 IO_L47P_0 (io), G17 IO_L55N_0 (io), H9 IO_L11N_0 (io), H10 IO_L11P_0 (io), H12 IO_L25P_0 (io), H13 IO_L21N_0 (io), H15 IO_L51N_0 (io), H16 IO_L55P_0 (io), H17 IO_L59N_0 (io), J11 IO_L9N_0 (io), J12 IO_L21P_0 (io), J13 IO_L45P_0 (io), J14 IO_L43P_0 (io), J15 IO_L51P_0 (io), J16 IO_L53N_0 (io), J17 IO_L59P_0 (io), K12 IO_L9P_0 (io), K14 IO_L45N_0 (io), K15 IO_L53P_0 (io)
part B pins: AA22 IO_L73N_1 (io), AA23 IO_L63P_1 (io), AA24 IO_L63N_1 (io), AA25 IO_L51P_M1DQ12_1 (io), AA26 IO_L51N_M1DQ13_1 (io), AB21 IO_L69P_1 (io), AB22 IO_L69N_VREF_1 (io), AB24 IO_L49P_M1DQ10_1 (io), AB26 IO_L49N_M1DQ11_1 (io), AC23 IO_L65P_1 (io), AC24 IO_L65N_1 (io), AC25 IO_L50P_M1UDQS_1 (io), AC26 IO_L50N_M1UDQSN_1 (io), AD24 IO_L48P_HDC_M1DQ8_1 (io), AD26 IO_L48N_M1DQ9_1 (io), AE23 IO_L74P_AWAKE_1 (io), AE24 IO_L67P_1 (io), AE25 IO_L52P_M1DQ14_1 (io), AE26 IO_L52N_M1DQ15_1 (io), AF24 IO_L74N_DOUT_BUSY_1 (io), AF25 IO_L67N_1 (io), K18 IO_L32N_A16_M1A9_1 (io), K19 IO_L28N_VREF_1 (io), L17 IO_L32P_A17_M1A8_1 (io), L18 IO_L34N_A12_M1BA2_1 (io), L19 IO_L28P_1 (io), L23 IO_L29P_A23_M1A13_1 (io), L24 IO_L29N_A22_M1A14_1 (io), M18 IO_L36P_A9_M1BA0_1 (io), M19 IO_L34P_A13_M1WE_1 (io), M21 IO_L40N_GCLK10_M1A6_1 (io), M23 IO_L31P_A19_M1CKE_1 (io), N17 IO_L38P_A5_M1CLK_1 (io), N18 IO_L38N_A4_M1CLKN_1 (io), N19 IO_L36N_A8_M1BA1_1 (io), N20 IO_L40P_GCLK11_M1A5_1 (io), N21 IO_L30N_A20_M1A11_1 (io), N22 IO_L37P_A7_M1A0_1 (io), N23 IO_L37N_A6_M1A1_1 (io), N24 IO_L31N_A18_M1A12_1 (io), P17 IO_L56P_1 (io), P18 IO_L56N_1 (io), P20 IO_L30P_A21_M1RESET_1 (io), P21 IO_L41P_GCLK9_IRDY1_M1RASN_1 (io), P22 IO_L41N_GCLK8_M1CASN_1 (io), P24 IO_L33P_A15_M1A10_1 (io), P26 IO_L33N_A14_M1A4_1 (io), R17 IO_L58P_1 (io), R18 IO_L58N_1 (io), R19 IO_L57N_1 (io), R20 IO_L57P_1 (io), R21 IO_L55N_1 (io), R22 IO_L55P_1 (io), R23 IO_L39P_M1A3_1 (io), R24 IO_L39N_M1ODT_1 (io), R25 IO_L35P_A11_M1A7_1 (io), R26 IO_L35N_A10_M1A2_1 (io), T18 IO_L60P_1 (io), T19 IO_L60N_1 (io), T20 IO_L64P_1 (io), T22 IO_L59P_1 (io), T23 IO_L53P_1 (io), T24 IO_L46P_FCS_B_M1DQ2_1 (io), T26 IO_L46N_FOE_B_M1DQ3_1 (io), U17 IO_L62P_1 (io), U19 IO_L70P_1 (io), U20 IO_L64N_1 (io), U21 IO_L61P_1 (io), U22 IO_L61N_1 (io), U23 IO_L59N_1 (io), U24 IO_L53N_VREF_1 (io), U25 IO_L43P_GCLK5_M1DQ4_1 (io), U26 IO_L43N_GCLK4_M1DQ5_1 (io), V17 IO_L62N_1 (io), V18 IO_L66P_1 (io), V19 IO_L66N_1 (io), V20 IO_L70N_1 (io), V22 IO_L71P_1 (io), V23 IO_L42P_GCLK7_M1UDM_1 (io), V24 IO_L45P_A1_M1LDQS_1 (io), V26 IO_L45N_A0_M1LDQSN_1 (io), W18 IO_L68P_1 (io), W19 IO_L68N_1 (io), W22 IO_L71N_1 (io), W24 IO_L42N_GCLK6_TRDY1_M1LDM_1 (io), W25 IO_L44P_A3_M1DQ6_1 (io), W26 IO_L44N_A2_M1DQ7_1 (io), Y20 IO_L72P_1 (io), Y21 IO_L72N_1 (io), Y22 IO_L73P_1 (io), Y24 IO_L47P_FWE_B_M1DQ0_1 (io), Y26 IO_L47N_LDC_M1DQ1_1 (io)
part C pins: AA9 IO_L61P_2 (io), AA11 IO_L43P_2 (io), AA12 IO_L41P_2 (io), AA13 IO_L34P_2 (io), AA14 IO_L28N_2 (io), AA15 IO_L20N_2 (io), AA17 IO_L10N_2 (io), AA18 IO_L11P_2 (io), AA19 IO_L6N_2 (io), AB9 IO_L61N_VREF_2 (io), AB10 IO_L51N_2 (io), AB11 IO_L43N_2 (io), AB13 IO_L34N_2 (io), AB15 IO_L19P_2 (io), AB17 IO_L15P_2 (io), AB18 IO_L11N_2 (io), AC9 IO_L58P_2 (io), AC11 IO_L45P_2 (io), AC12 IO_L41N_VREF_2 (io), AC13 IO_L31P_GCLK31_D14_2 (io), AC14 IO_L19N_2 (io), AC15 IO_L16P_2 (io), AC16 IO_L17P_2 (io), AC17 IO_L15N_2 (io), AC19 IO_L7P_2 (io), AC20 IO_L5P_2 (io), AD6 IO_L63P_2 (io), AD8 IO_L53P_2 (io), AD9 IO_L58N_2 (io), AD10 IO_L49P_D3_2 (io), AD11 IO_L45N_2 (io), AD12 IO_L32P_GCLK29_2 (io), AD13 IO_L31N_GCLK30_D15_2 (io), AD14 IO_L29P_GCLK3_2 (io), AD15 IO_L16N_VREF_2 (io), AD16 IO_L13P_M1_2 (io), AD17 IO_L17N_2 (io), AD18 IO_L9P_2 (io), AD19 IO_L7N_2 (io), AD20 IO_L3P_D0_DIN_MISO_MISO1_2 (io), AD21 IO_L5N_2 (io), AD22 IO_L1P_CCLK_2 (io), AE4 IO_L65P_INIT_B_2 (io), AE5 IO_L64P_D8_2 (io), AE7 IO_L62P_D5_2 (io), AE9 IO_L48P_D7_2 (io), AE11 IO_L47P_2 (io), AE13 IO_L30P_GCLK1_D13_2 (io), AE15 IO_L14P_D11_2 (io), AE17 IO_L12P_D1_MISO2_2 (io), AE19 IO_L4P_2 (io), AE21 IO_L2P_CMPCLK_2 (io), AF4 IO_L65N_CSO_B_2 (io), AF5 IO_L64N_D9_2 (io), AF6 IO_L63N_2 (io), AF7 IO_L62N_D6_2 (io), AF8 IO_L53N_2 (io), AF9 IO_L48N_RDWR_B_VREF_2 (io), AF10 IO_L49N_D4_2 (io), AF11 IO_L47N_2 (io), AF12 IO_L32N_GCLK28_2 (io), AF13 IO_L30N_GCLK0_USERCCLK_2 (io), AF14 IO_L29N_GCLK2_2 (io), AF15 IO_L14N_D12_2 (io), AF16 IO_L13N_D10_2 (io), AF17 IO_L12N_D2_MISO3_2 (io), AF18 IO_L9N_2 (io), AF19 IO_L4N_VREF_2 (io), AF20 IO_L3N_MOSI_CSI_B_MISO0_2 (io), AF21 IO_L2N_CMPMOSI_2 (io), AF22 IO_L1N_M0_CMPMISO_2 (io), U12 IO_L50N_2 (io), U13 IO_L50P_2 (io), U15 IO_L42P_2 (io), V11 IO_L52P_2 (io), V12 IO_L46P_2 (io), V13 IO_L44P_2 (io), V14 IO_L42N_2 (io), V15 IO_L18P_2 (io), V16 IO_L8P_2 (io), W11 IO_L52N_2 (io), W12 IO_L46N_2 (io), W13 IO_L33P_2 (io), W14 IO_L44N_2 (io), W16 IO_L18N_2 (io), W17 IO_L8N_2 (io), Y10 IO_L51P_2 (io), Y13 IO_L33N_2 (io), Y14 IO_L28P_2 (io), Y15 IO_L20P_2 (io), Y16 IO_L10P_2 (io), Y18 IO_L6P_2 (io)
part D pins: AA1 IO_L36N_M3DQ9_3 (io), AA2 IO_L36P_M3DQ8_3 (io), AA3 IO_L20N_3 (io), AA4 IO_L20P_3 (io), AA5 IO_L16P_3 (io), AA7 IO_L7P_3 (io), AA8 IO_L4P_3 (io), AB1 IO_L32N_M3DQ15_3 (io), AB3 IO_L32P_M3DQ14_3 (io), AB4 IO_L18P_3 (io), AB5 IO_L16N_3 (io), AB6 IO_L8N_3 (io), AB7 IO_L8P_3 (io), AB8 IO_L4N_3 (io), AC1 IO_L34N_M3UDQSN_3 (io), AC2 IO_L34P_M3UDQS_3 (io), AC3 IO_L18N_3 (io), AC4 IO_L3P_3 (io), AC5 IO_L10P_3 (io), AC7 IO_L1P_3 (io), AD1 IO_L33N_M3DQ13_3 (io), AD3 IO_L33P_M3DQ12_3 (io), AD4 IO_L3N_3 (io), AD5 IO_L10N_3 (io), AD7 IO_L1N_VREF_3 (io), AE1 IO_L35N_M3DQ11_3 (io), AE2 IO_L35P_M3DQ10_3 (io), AE3 IO_L2P_3 (io), AF2 IO_L2N_3 (io), L3 IO_L54N_M3A11_3 (io), L4 IO_L54P_M3RESET_3 (io), L6 IO_L57N_VREF_3 (io), L7 IO_L57P_3 (io), M4 IO_L55N_M3A14_3 (io), M6 IO_L55P_M3A13_3 (io), M8 IO_L53N_M3A12_3 (io), M9 IO_L53P_M3CKE_3 (io), M10 IO_L51P_M3A10_3 (io), N3 IO_L52N_M3A9_3 (io), N4 IO_L52P_M3A8_3 (io), N5 IO_L50N_M3BA2_3 (io), N6 IO_L47N_M3A1_3 (io), N7 IO_L47P_M3A0_3 (io), N8 IO_L43P_GCLK23_M3RASN_3 (io), N9 IO_L51N_M3A4_3 (io), P1 IO_L48N_M3BA1_3 (io), P3 IO_L48P_M3BA0_3 (io), P5 IO_L50P_M3WE_3 (io), P6 IO_L45N_M3ODT_3 (io), P7 IO_L45P_M3A3_3 (io), P8 IO_L43N_GCLK22_IRDY2_M3CASN_3 (io), P10 IO_L49P_M3A7_3 (io), R1 IO_L44N_GCLK20_M3A6_3 (io), R2 IO_L44P_GCLK21_M3A5_3 (io), R3 IO_L46N_M3CLKN_3 (io), R4 IO_L46P_M3CLK_3 (io), R5 IO_L30P_3 (io), R6 IO_L31N_VREF_3 (io), R7 IO_L31P_3 (io), R9 IO_L49N_M3A2_3 (io), R10 IO_L27P_3 (io), T1 IO_L41N_GCLK26_M3DQ5_3 (io), T3 IO_L41P_GCLK27_M3DQ4_3 (io), T4 IO_L30N_3 (io), T6 IO_L29N_3 (io), T8 IO_L29P_3 (io), T9 IO_L27N_3 (io), T10 IO_L25P_3 (io), U1 IO_L40N_M3DQ7_3 (io), U2 IO_L40P_M3DQ6_3 (io), U3 IO_L28N_3 (io), U4 IO_L28P_3 (io), U5 IO_L24P_3 (io), U7 IO_L23N_3 (io), U8 IO_L23P_3 (io), U9 IO_L25N_3 (io), V1 IO_L39N_M3LDQSN_3 (io), V3 IO_L39P_M3LDQS_3 (io), V4 IO_L42P_GCLK25_TRDY2_M3UDM_3 (io), V5 IO_L24N_3 (io), V6 IO_L17N_VREF_3 (io), V7 IO_L17P_3 (io), V8 IO_L19N_3 (io), V10 IO_L21N_3 (io), W1 IO_L38N_M3DQ3_3 (io), W2 IO_L38P_M3DQ2_3 (io), W3 IO_L42N_GCLK24_M3LDM_3 (io), W5 IO_L22P_3 (io), W7 IO_L15N_3 (io), W8 IO_L15P_3 (io), W9 IO_L19P_3 (io), W10 IO_L21P_3 (io), Y1 IO_L37N_M3DQ1_3 (io), Y3 IO_L37P_M3DQ0_3 (io), Y5 IO_L22N_3 (io), Y6 IO_L7N_3 (io), Y8 IO_L9N_3 (io), Y9 IO_L9P_3 (io)
part E pins: B1 IO_L81N_M4A11_4 (io), B2 IO_L81P_M4RESET_4 (io), C1 IO_L79N_M4A9_4 (io), C2 IO_L79P_M4A8_4 (io), C3 IO_L83N_VREF_4 (io), C4 IO_L83P_4 (io), D1 IO_L68N_M4DQ5_4 (io), D3 IO_L68P_M4DQ4_4 (io), E1 IO_L67N_M4DQ7_4 (io), E2 IO_L67P_M4DQ6_4 (io), E3 IO_L77N_M4BA2_4 (io), E4 IO_L77P_M4WE_4 (io), E5 IO_L80N_M4A12_4 (io), F1 IO_L66N_M4LDQSN_4 (io), F3 IO_L66P_M4LDQS_4 (io), F5 IO_L80P_M4CKE_4 (io), G1 IO_L65N_M4DQ3_4 (io), G2 IO_L65P_M4DQ2_4 (io), G3 IO_L73N_M4CLKN_4 (io), G4 IO_L73P_M4CLK_4 (io), G5 IO_L78N_M4A4_4 (io), G6 IO_L78P_M4A10_4 (io), G7 IO_L82N_M4A14_4 (io), H1 IO_L64N_M4DQ1_4 (io), H3 IO_L64P_M4DQ0_4 (io), H5 IO_L75N_M4BA1_4 (io), H6 IO_L75P_M4BA0_4 (io), H7 IO_L72N_M4ODT_4 (io), H8 IO_L82P_M4A13_4 (io), J1 IO_L63N_M4DQ9_4 (io), J2 IO_L63P_M4DQ8_4 (io), J3 IO_L69N_M4LDM_4 (io), J4 IO_L69P_M4UDM_4 (io), J5 IO_L71N_M4A6_4 (io), J7 IO_L72P_M4A3_4 (io), J10 IO_L76P_M4A7_4 (io), K1 IO_L62N_M4DQ11_4 (io), K3 IO_L62P_M4DQ10_4 (io), K5 IO_L71P_M4A5_4 (io), K6 IO_L70N_M4CASN_4 (io), K7 IO_L70P_M4RASN_4 (io), K8 IO_L58P_4 (io), K9 IO_L76N_M4A2_4 (io), K10 IO_L74P_M4A0_4 (io), L1 IO_L61N_M4UDQSN_4 (io), L2 IO_L61P_M4UDQS_4 (io), L8 IO_L58N_VREF_4 (io), L9 IO_L74N_M4A1_4 (io), M1 IO_L60N_M4DQ13_4 (io), M3 IO_L60P_M4DQ12_4 (io), N1 IO_L59N_M4DQ15_4 (io), N2 IO_L59P_M4DQ14_4 (io)
part F pins: A23 IO_L1N_A24_VREF_5 (io), A25 IO_L10N_M5A1_5 (io), B23 IO_L1P_A25_5 (io), B24 IO_L10P_M5A0_5 (io), B25 IO_L12P_M5A3_5 (io), B26 IO_L12N_M5ODT_5 (io), C24 IO_L3N_M5A11_5 (io), C25 IO_L11P_M5CLK_5 (io), C26 IO_L11N_M5CLKN_5 (io), D22 IO_L4N_M5A12_5 (io), D23 IO_L3P_M5RESET_5 (io), D24 IO_L17P_M5DQ6_5 (io), D26 IO_L17N_M5DQ7_5 (io), E23 IO_L7P_M5WE_5 (io), E24 IO_L7N_M5BA2_5 (io), E25 IO_L16P_M5DQ4_5 (io), E26 IO_L16N_M5DQ5_5 (io), F22 IO_L4P_M5CKE_5 (io), F24 IO_L18P_M5LDQS_5 (io), F26 IO_L18N_M5LDQSN_5 (io), G19 IO_L9N_M5BA1_5 (io), G20 IO_L2P_M5A13_5 (io), G21 IO_L2N_M5A14_5 (io), G22 IO_L6N_M5A4_5 (io), G23 IO_L8P_M5A7_5 (io), G24 IO_L8N_M5A2_5 (io), G25 IO_L20P_M5DQ0_5 (io), G26 IO_L20N_M5DQ1_5 (io), H18 IO_L9P_M5BA0_5 (io), H19 IO_L27P_5 (io), H20 IO_L5P_M5A8_5 (io), H21 IO_L5N_M5A9_5 (io), H22 IO_L6P_M5A10_5 (io), H24 IO_L19P_M5DQ2_5 (io), H26 IO_L19N_M5DQ3_5 (io), J20 IO_L27N_5 (io), J22 IO_L14N_M5CASN_5 (io), J23 IO_L15P_M5UDM_5 (io), J24 IO_L15N_M5LDM_5 (io), J25 IO_L22P_M5DQ10_5 (io), J26 IO_L22N_M5DQ11_5 (io), K20 IO_L13P_M5A5_5 (io), K21 IO_L13N_M5A6_5 (io), K22 IO_L14P_M5RASN_5 (io), K24 IO_L21P_M5DQ8_5 (io), K26 IO_L21N_M5DQ9_5 (io), L20 IO_L26P_5 (io), L21 IO_L26N_VREF_5 (io), L25 IO_L24P_M5DQ12_5 (io), L26 IO_L24N_M5DQ13_5 (io), M24 IO_L23P_M5UDQS_5 (io), M26 IO_L23N_M5UDQSN_5 (io), N25 IO_L25P_M5DQ14_5 (io), N26 IO_L25N_M5DQ15_5 (io)
part G pins: A24 TDO (out), AA20 RFUSE (in), AB19 VFS (in), AC22 CMPCS_B_2 (in), AD23 SUSPEND (in), AF3 PROGRAM_B_2 (in), AF23 DONE_2 (io), C23 TMS (in), E21 TCK (in), F20 TDI (in)
part H pins: AA6 VCCAUX (power), AA10 VCCAUX (power), AA16 VCCAUX (power), AA21 VCCAUX (power), AB14 VCCO_2 (power), AB23 VCCO_1 (power), AC6 VCCO_3 (power), AC10 VCCO_2 (power), AC18 VCCO_2 (power), AC21 VCCO_2 (power), AD2 VCCO_3 (power), AD25 VCCO_1 (power), AE8 VCCO_2 (power), AE12 VCCO_2 (power), AE16 VCCO_2 (power), AE20 VCCO_2 (power), B3 VCCO_0 (power), B7 VCCO_0 (power), B11 VCCO_0 (power), B15 VCCO_0 (power), B19 VCCO_0 (power), C22 VCCO_0 (power), D2 VCCO_4 (power), D9 VCCO_0 (power), D17 VCCO_0 (power), D25 VCCO_5 (power), E13 VCCO_0 (power), F4 VCCO_4 (power), F6 VCCAUX (power), F21 VCCAUX (power), F23 VCCO_5 (power), G10 VCCO_0 (power), G12 VCCAUX (power), G15 VCCAUX (power), G18 VCCO_0 (power), H2 VCCO_4 (power), H14 VCCO_0 (power), H25 VCCO_5 (power), J6 VCCO_4 (power), J9 VCCAUX (power), J18 VCCAUX (power), J21 VCCO_5 (power), K4 VCCO_4 (power), K11 VCCINT (power), K13 VCCAUX (power), K17 VCCINT (power), K23 VCCO_5 (power), L5 VCCAUX (power), L10 VCCINT (power), L12 VCCINT (power), L14 VCCINT (power), L16 VCCINT (power), L22 VCCAUX (power), M2 VCCO_4 (power), M7 VCCO_3 (power), M11 VCCINT (power), M13 VCCINT (power), M15 VCCINT (power), M17 VCCAUX (power), M20 VCCO_1 (power), M25 VCCO_5 (power), N10 VCCAUX (power), N12 VCCINT (power), N14 VCCINT (power), N16 VCCINT (power), P4 VCCO_3 (power), P9 VCCO_3 (power), P11 VCCINT (power), P13 VCCINT (power), P15 VCCINT (power), P23 VCCO_1 (power), R12 VCCINT (power), R14 VCCINT (power), R16 VCCINT (power), T2 VCCO_3 (power), T7 VCCO_3 (power), T11 VCCINT (power), T13 VCCINT (power), T15 VCCINT (power), T17 VCCINT (power), T25 VCCO_1 (power), U6 VCCAUX (power), U10 VCCINT (power), U14 VCCAUX (power), U16 VCCINT (power), U18 VCCO_1 (power), V9 VCCAUX (power), V21 VCCO_1 (power), W4 VCCO_3 (power), W6 VCCO_3 (power), W21 VBATT (power), W23 VCCO_1 (power), Y2 VCCO_3 (power), Y12 VCCO_2 (power), Y17 VCCO_2 (power), Y19 VCCAUX (power), Y25 VCCO_1 (power)
part I pins: A1 GND (power), A26 GND (power), AB2 GND (power), AB12 GND (power), AB16 GND (power), AB20 GND (power), AB25 GND (power), AC8 GND (power), AE6 GND (power), AE10 GND (power), AE14 GND (power), AE18 GND (power), AE22 GND (power), AF1 GND (power), AF26 GND (power), B5 GND (power), B9 GND (power), B13 GND (power), B17 GND (power), B21 GND (power), D4 GND (power), E7 GND (power), E11 GND (power), E15 GND (power), E22 GND (power), F2 GND (power), F19 GND (power), F25 GND (power), H4 GND (power), H11 GND (power), H23 GND (power), J8 GND (power), J19 GND (power), K2 GND (power), K16 GND (power), K25 GND (power), L11 GND (power), L13 GND (power), L15 GND (power), M5 GND (power), M12 GND (power), M14 GND (power), M16 GND (power), M22 GND (power), N11 GND (power), N13 GND (power), N15 GND (power), P2 GND (power), P12 GND (power), P14 GND (power), P16 GND (power), P19 GND (power), P25 GND (power), R8 GND (power), R11 GND (power), R13 GND (power), R15 GND (power), T5 GND (power), T12 GND (power), T14 GND (power), T16 GND (power), T21 GND (power), U11 GND (power), V2 GND (power), V25 GND (power), W15 GND (power), W20 GND (power), Y4 GND (power), Y7 GND (power), Y11 GND (power), Y23 GND (power)
part A text: BANK 0
part B text: BANK 1
part C text: BANK 2
part D text: BANK 3
part E text: BANK 4
part F text: BANK 5

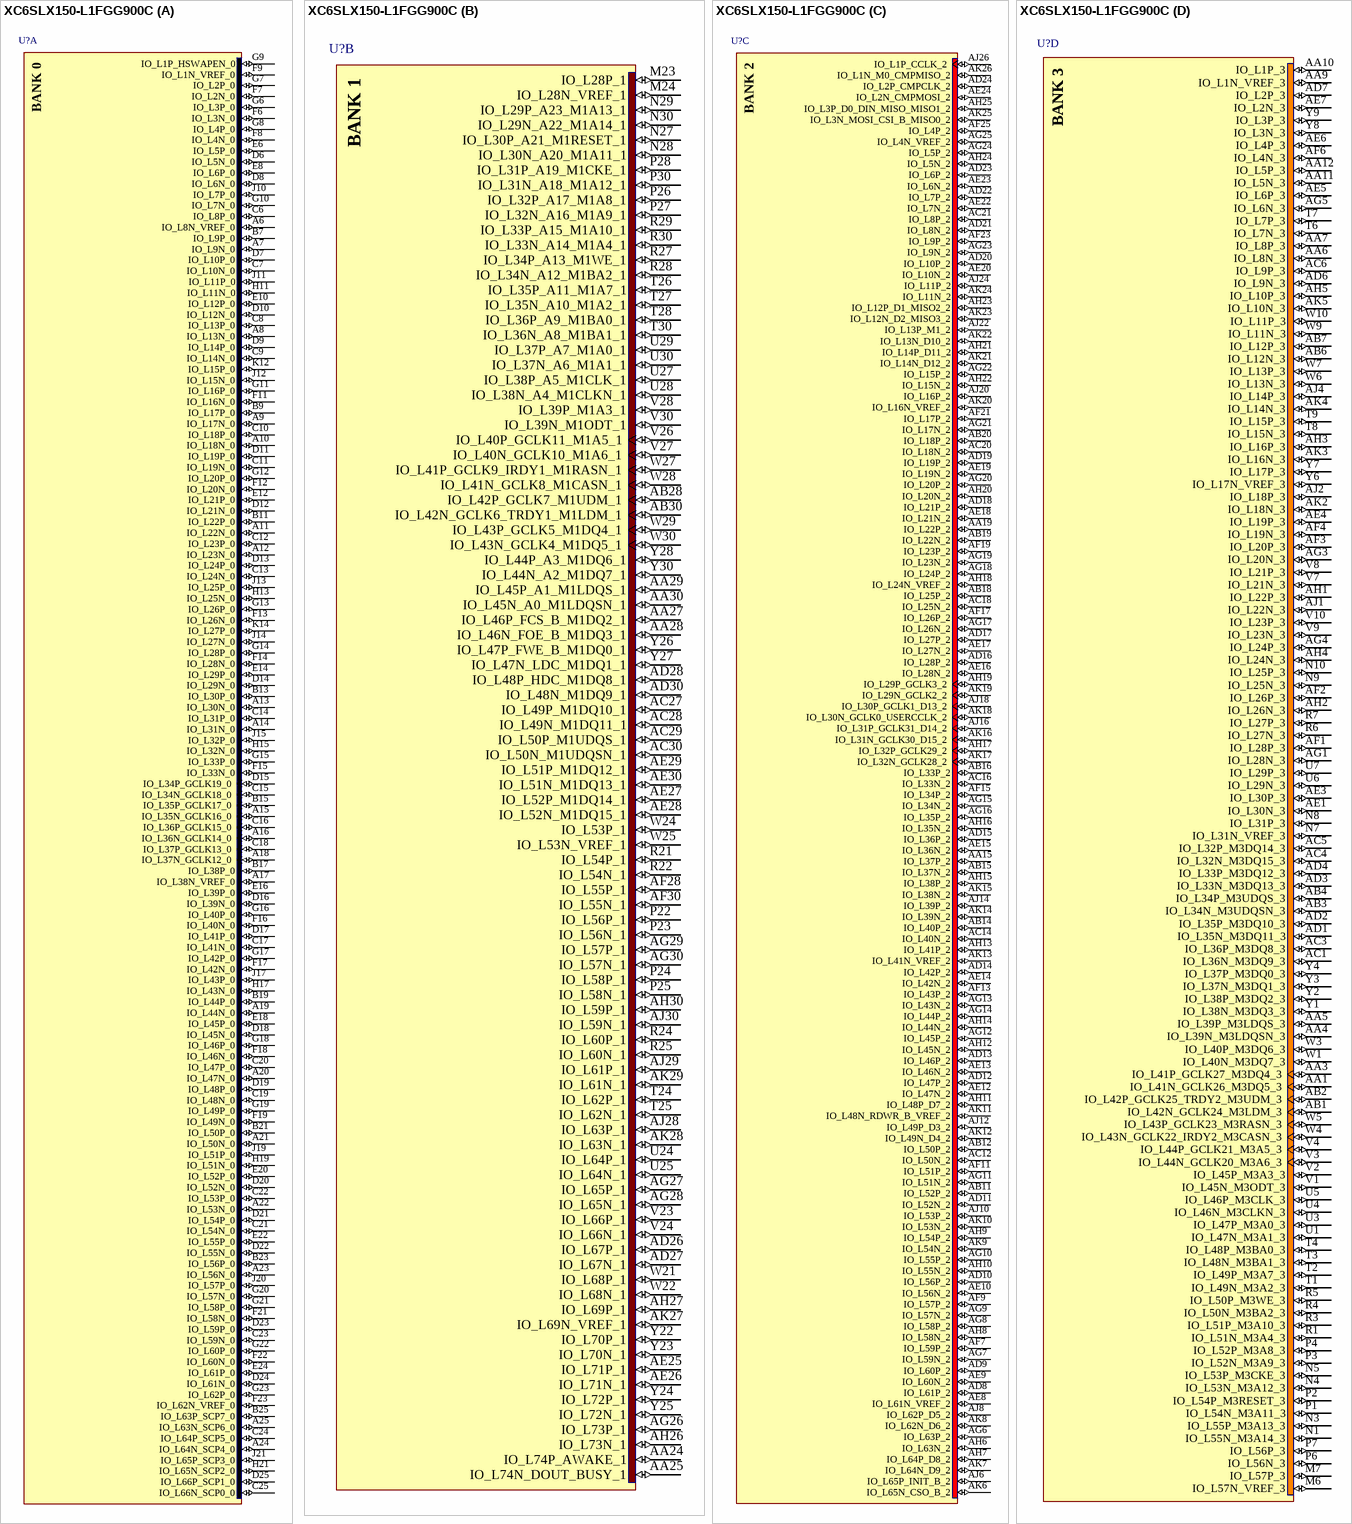
[diagram p107: symbol XC6SLX150-L1FGG900C]

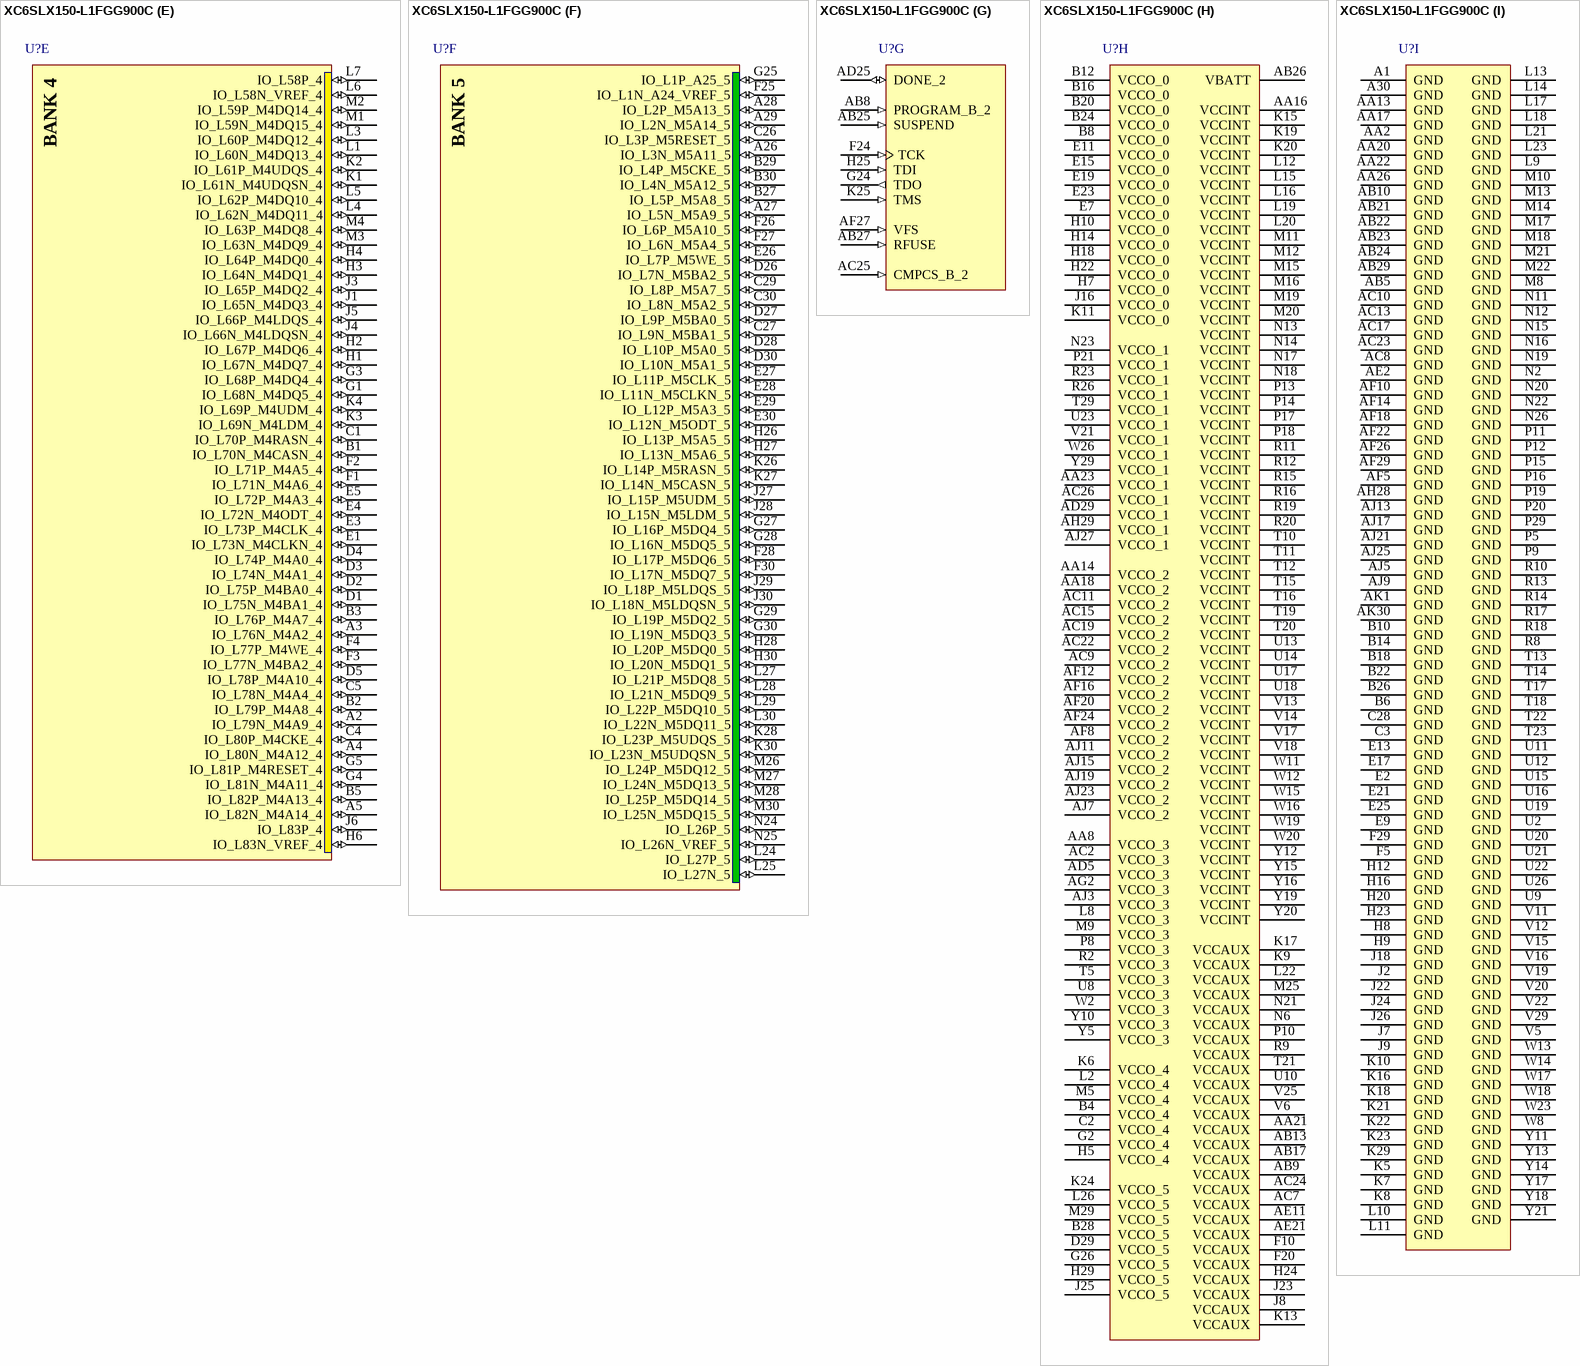
[diagram p108: symbol XC6SLX150-L1FGG900C]